# EAGLE library part DMG-SCREEN (library Game Boy)
The white connector for the ribbon cable to connect the DMG's front half
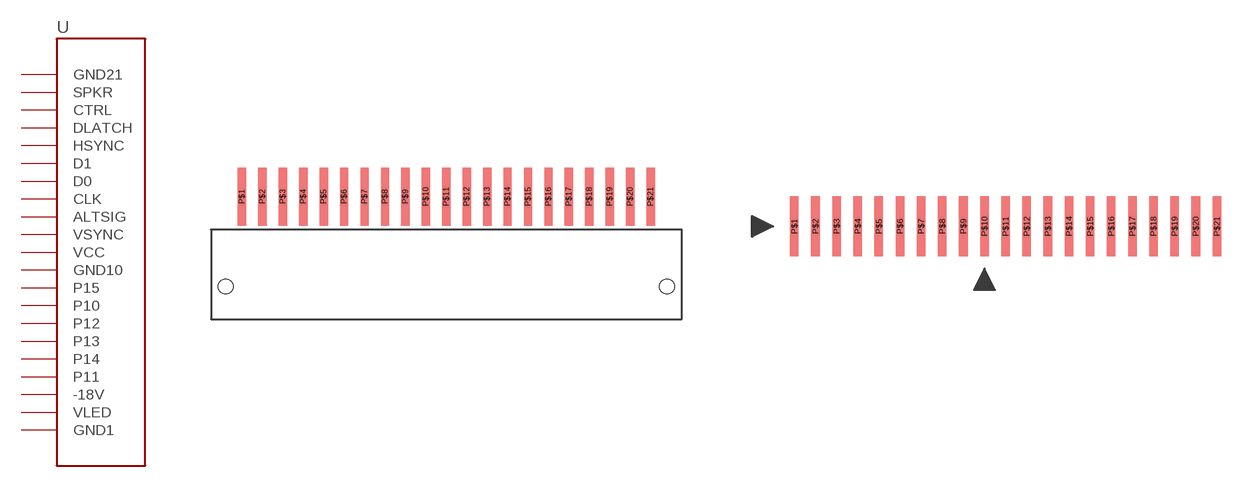
[diagram p2: symbol with the pads of DMG-SCREEN; footprints DMG-SCREEN, DMG-FFC]

Designator prefix -

## DMG-SCREENCONNECTOR  [DMG-SCREEN]
P$1  GND1
P$2  VLED
P$3  -18V
P$4  P11
P$5  P14
P$6  P13
P$7  P12
P$8  P10
P$9  P15
P$10  GND10
P$11  VCC
P$12  VSYNC
P$13  ALTSIG
P$14  CLK
P$15  D0
P$16  D1
P$17  HSYNC
P$18  DLATCH
P$19  CTRL
P$20  SPKR
P$21  GND21

## DMG-SCREENFFC  [DMG-FFC]
Pads as for DMG-SCREEN

## Footprint DMG-SCREEN (pad centres in mm)
smd 0.508 x 3.556: P$1 -12.5,0; P$2 -11.25,0; P$3 -10,0; P$4 -8.75,0; P$5 -7.5,0; P$6 -6.25,0; P$7 -5,0; P$8 -3.75,0; P$9 -2.5,0; P$10 -1.25,0; P$11 0,0; P$12 1.25,0; P$13 2.5,0; P$14 3.75,0; P$15 5,0; P$16 6.25,0; P$17 7.5,0; P$18 8.75,0; P$19 10,0; P$20 11.25,0; P$21 12.5,0
hole 0.9 at -13.5,-5.5
hole 0.9 at 13.5,-5.5

## Footprint DMG-FFC (pad centres in mm)
smd 0.508 x 3.556: P$1 -12.5,0; P$2 -11.25,0; P$3 -10,0; P$4 -8.75,0; P$5 -7.5,0; P$6 -6.25,0; P$7 -5,0; P$8 -3.75,0; P$9 -2.5,0; P$10 -1.25,0; P$11 0,0; P$12 1.25,0; P$13 2.5,0; P$14 3.75,0; P$15 5,0; P$16 6.25,0; P$17 7.5,0; P$18 8.75,0; P$19 10,0; P$20 11.25,0; P$21 12.5,0